# EAGLE library part 74HC14BQ-Q100,115 (library 74HC14BQ-Q100_115)
74HC(T)14-Q100 - Hex inverting Schmitt trigger@en-us Source: Datasheet <https://assets.nexperia.com/documents/data-sheet/74HC_HCT14_Q100.pdf>
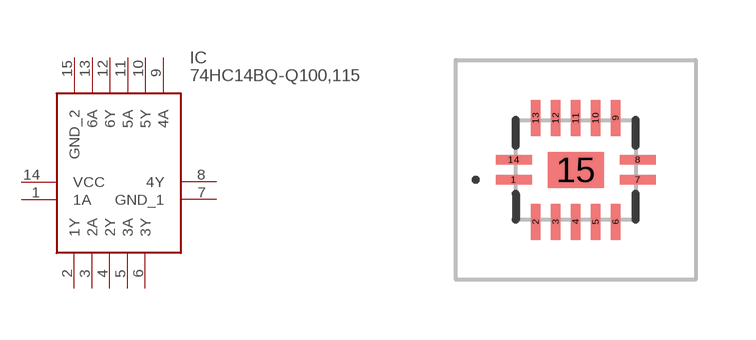
[diagram p0: symbol with the pads of 74HC14BQQ100115; footprint 74HC14BQQ100115]

Designator prefix IC

## 74HC14BQ-Q100,115 (Description: 74HC(T)14-Q100 - Hex inverting Schmitt trigger@en-us; Height: 1mm; Manufacturer_Name: Nexperia; Manufacturer_Part_Number: 74HC14BQ-Q100,115; Mouser_Part_Number: 771-74HC14BQ-Q100115; Mouser_Price-Stock: https://www.mouser.co.uk/ProductDetail/Nexperia/74HC14BQ-Q100115?qs=1sbE9T7hb3by%252BzLgwKmEqA%3D%3D)  [74HC14BQQ100115]
1  1A
2  1Y
3  2A
4  2Y
5  3A
6  3Y
7  GND_1
8  4Y
9  4A
10  5Y
11  5A
12  6Y
13  6A
14  VCC
15  GND_2

## Footprint 74HC14BQQ100115 (pad centres in mm)
74HC14BQ-Q100,115-2
smd 0.9 x 0.24: 1 -1.55,-0.25; 7 1.55,-0.25; 8 1.55,0.25; 14 -1.55,0.25
smd 0.24 x 0.9: 2 -1,-1.3; 3 -0.5,-1.3; 4 0,-1.3; 5 0.5,-1.3; 6 1,-1.3; 9 1,1.3; 10 0.5,1.3; 11 0,1.3; 12 -0.5,1.3; 13 -1,1.3
smd 1.4 x 0.9: 15 0,0